# Altium schematic symbol library Power_ICs.SchLib: 1 symbol
Pins are listed as number, name and electrical type; pins without a type are passive.

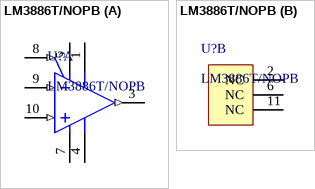
[diagram p0: symbol LM3886T/NOPB]

## LM3886T/NOPB
designator U?
High-Performance 68 W Audio Power Amplifier with Mute, 0 to 70 degC, 11-pin FM (NDJ11), Green (RoHS & no Sb/Br); Manufacturer: Texas Instruments; Input Type: Analog; SubFamily: Mid/High-Power Amplifier; ComponentLink1Description: Manufacturer URL; ComponentLink2Description: Datasheet; DatasheetVersion: SNAS091C; Mounting Technology: Through Hole; ComponentLink3URL: http://www.ti.com/lit/ds/symlink/lm3886.pdf; ComponentLink3Description: Package Specification; ComponentLink1URL: http://www.ti.com/; PackageReference: NDJ11; PackageVersion: Rev. B, 05/2013; Eco-Plan: Green (RoHS & no Sb/Br); PartNumber: LM3886T/NOPB; PackageDescription: 11-Pin Metal Flange Mount, Body 20.02 x 4.5, Pitch 1.7 mm; ComponentLink2URL: http://www.ti.com/general/docs/lit/getliterature.tsp?genericPartNumber=LM3886&fileType=pdf
footprint TO-220_11 (FM, 11-Leads, Body 20.02x4.5mm, Pitch 1.7mm)
part A pins: 1 V+ (power), 3 OUTPUT (out), 4 V- (power), 5 V+ (power), 7 GND (power), 8 MUTE (in), 9 VIN- (in), 10 VIN+ (in)
part B pins: 2 NC, 6 NC, 11 NC